# Altium integrated library eth.IntLib: 11 symbols
Pins are listed as number, name and electrical type; pins without a type are passive.

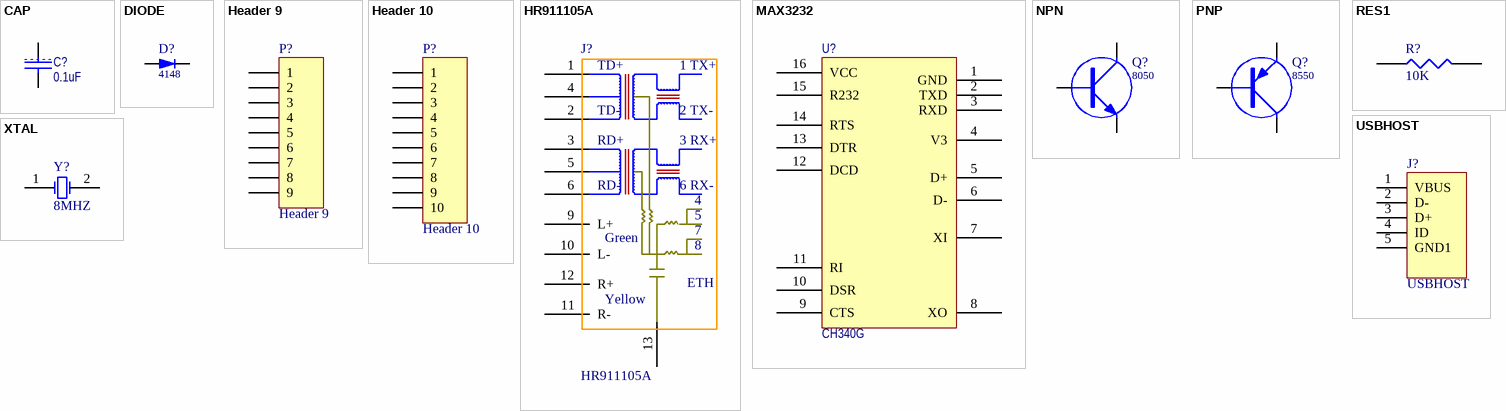
[diagram p0: symbols CAP to XTAL]

## CAP
designator C?, comment 0.1uF
Capacitor
footprint 0805
footprint MY0805
footprint 0603
pins: 1, 2
2 alternate drawings of the same symbol

## DIODE
designator D?, comment 4148
footprint 4148
pins: 1, 2

## Header 9
designator P?
Header, 9-Pin; LatestRevisionDate: 17-Jul-2002; LatestRevisionNote: Re-released for DXP Platform.; Publisher: Altium Limited
footprint HDR1X9 (Connector; Header; 9 Position)
signal-integrity model Connector
pins: 1, 2, 3, 4, 5, 6, 7, 8, 9

## Header 10
designator P?
Header, 10-Pin; LatestRevisionDate: 17-Jul-2002; LatestRevisionNote: Re-released for DXP Platform.; Publisher: Altium Limited
footprint HDR1X10 (Connector; Header; 10 Position)
signal-integrity model Connector
pins: 1, 2, 3, 4, 5, 6, 7, 8, 9, 10

## HR911105A
designator J?
footprint HR911105A
pins: 1, 2, 3, 4, 5, 6, 9 L+, 10 L-, 11 R-, 12 R+, 13
2 alternate drawings of the same symbol
text: TD+; 1 TX+; TD-; 2 TX-; RD+; 3 RX+; RD-; 6 RX-; 7; Green; 8; ETH; Yellow

## MAX3232
designator U?, comment CH340G
Text Field1: 90; Text Field2: 190
footprint SO16
footprint DIP16
pins: 1 GND, 2 TXD, 3 RXD, 4 V3, 5 D+, 6 D-, 7 XI, 8 XO, 9 CTS, 10 DSR, 11 RI, 12 DCD, 13 DTR, 14 RTS, 15 R232 (power), 16 VCC (power)
2 alternate drawings of the same symbol

## NPN
designator Q?, comment 8050
footprint SMD-Q1
footprint NPN-8050
pins: B, C, E

## PNP
designator Q?, comment 8550
footprint SMD-Q1
footprint PNP-8550
pins: B, C, E

## RES1
designator R?, comment 10K
footprint 0603
footprint 0805
pins: 1, 2
2 alternate drawings of the same symbol

## USBHOST
designator J?
J4
footprint USB
pins: 0 GND1 hidden to GND, 1 VBUS, 2 D-, 3 D+, 4 ID, 5 GND1
2 alternate drawings of the same symbol

## XTAL
designator Y?, comment 8MHZ
Crystal Oscillator; Published: 8-Jun-2000; LatestRevisionDate: 17-Jul-2002; LatestRevisionNote: Re-released for DXP Platform.; PackageReference: R38; Publisher: Altium Limited
footprint XTAL_24M
pins: 1 OSC1, 2 OSC2
2 alternate drawings of the same symbol